# Altium schematic symbol library Cap2_1.Schlib: 1 symbol
Pins are listed as number, name and electrical type; pins without a type are passive.

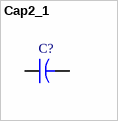
[diagram p0: symbol Cap2_1]

## Cap2_1
designator C?
Capacitor
pins: 1, 2